# Altium integrated library Integrated_Library - 03.05.18 - 01.08.IntLib: 1 symbol
Pins are listed as number, name and electrical type; pins without a type are passive.

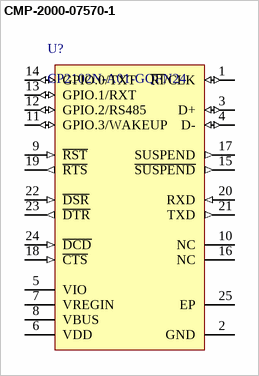
[diagram p0: symbol CMP-2000-07570-1]

## CMP-2000-07570-1
designator U?, comment CP2102N-A01-GQFN24
USBXpress(TM) Family, 4 GPIOs, 2.2 to 3.6 V, -40 to 85 degC, 24-Pin QFN, RoHS; Manufacturer: Silicon Labs; Max Supply Voltage: 3.6V; Min Supply Voltage: 3V; Datasheet Version: Rev. 1.1, 08/2016; Max Operating Temperature: 85degC; Case\/Package: QFN; Number of Pins: 24; Min Operating Temperature: -40degC; Mounting Technology: SurfaceMount; Manufacturer URL: http://www.silabs.com/; RoHSCompliant: False; Package Reference: QFN-24-2550x2550TP_A; Datasheet URL: http://www.silabs.com/documents/public/data-sheets/cp2102n-datasheet.pdf; Package Description: 24-Pin Quad Flat No-lead Package, Body 4 x 4 mm, Pitch 0.5 mm; REACH SVHC: Unknown
footprint SLAB-QFN-24-2550x2550TP_A_V (QFN, 6-Leads, Body 4x4mm, Pitch 0.5mm, Thermal Pad 2.55x2.55mm)
pins: 1 ~{RI}/CLK (io), 2 GND (power) "Ground", 3 D+ (io) "USB Data Positive", 4 D- (io) "USB Data Negative", 5 VIO (power) "I/O Supply Power Input", 6 VDD (power) "Supply Power Input / 5V Regulator Output", 7 VREGIN (power) "5V Regulator Input", 8 VBUS (power) "Digital Input. VBUS Sense Input. This pin should be connected to the VBUS signal of a USB network. A 5 V signal on this pin indicates a USB network connection.", 9 ~{RST} (in) "Active-low Reset", 10 NC "No Connect (leave this pin floating).", 11 GPIO.3/WAKEUP (io) "Digital Output. This pin is driven low when the device enters the USB suspend state.", 12 GPIO.2/RS485 (io) "Ground", 13 GPIO.1/RXT (io) "Digital Input. Remote USB wakeup interrupt input.", 14 GPIO.0/TXT (io) "Digital Output. This pin is driven high when the device enters the USB suspend state", 15 ~{SUSPEND} (out) "Digital Output. This pin is driven low when the device enters the USB suspend state.", 16 NC "No Connect (leave this pin floating).", 17 SUSPEND (out) "Digital Output. This pin is driven high when the device enters the USB suspend state.", 18 ~{CTS} (in) "Digital Input. Clear To Send control input (active low).", 19 ~{RTS} (out) "Digital Output. Ready To Send control output (active low).", 20 RXD (in) "Digital Input. Asynchronous data input (UART Receive).", 21 TXD (out) "Digital Output. Asynchronous data output (UART Transmit).", 22 ~{DSR} (in) "Digital Input. Data Set Ready control input (active low).", 23 ~{DTR} (out) "Digital Output. Data Terminal Ready control output (active low).", 24 ~{DCD} (in) "Digital Input. Data Carrier Detect control input (active low).", 25 EP (power) "Ground"